# Altium footprint library HRS_FX6-20S-0.8SV(71).PcbLib: 1 footprints
Each footprint in its own frame and in the unit in brackets; x right, y up, seen from the top. Pads: shape width x height; smd on the part's side, far side on the other; paste and mask are expansions set on the pad; w line width, h text height; cw(c..) or ccw(c..) is an arc to the next point about the centre after c.
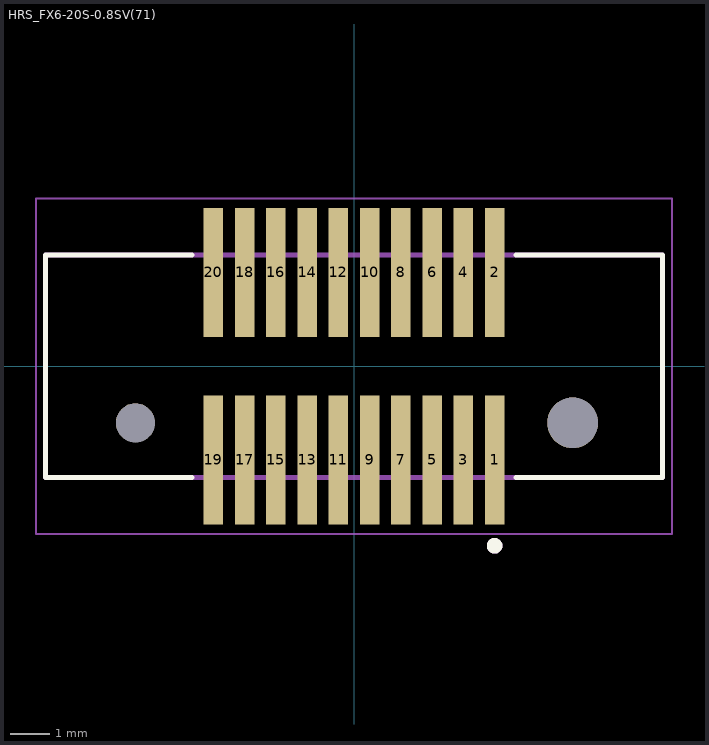
[diagram p0: the footprint, top view; thin cyan lines are the x and y axes]

## HRS_FX6-20S-0.8SV(71) [mm]
pads (22):
  rect 0.5x3.3 smd: 1(3.6,-2.4) 2(3.6,2.4) 3(2.8,-2.4) 4(2.8,2.4) 5(2,-2.4) 6(2,2.4) 7(1.2,-2.4) 8(1.2,2.4) 9(0.4,-2.4) 10(0.4,2.4) 11(-0.4,-2.4) 12(-0.4,2.4) 13(-1.2,-2.4) 14(-1.2,2.4) 15(-2,-2.4) 16(-2,2.4) 17(-2.8,-2.4) 18(-2.8,2.4) 19(-3.6,-2.4) 20(-3.6,2.4)
  round 1 hole 1 unplated: ""(-5.6,-1.45)
  round 1.3 hole 1.3 unplated: ""(5.6,-1.45)
Top Overlay:
  circle w0.2: c3.6,-4.6 r0.1
  lines w0.127: -4.147,-2.85 -7.9,-2.85 -7.9,2.85 -4.147,2.85 ; 4.147,-2.85 7.9,-2.85 7.9,2.85 4.147,2.85
Mechanical 13:
  circle w0.2: c3.6,-4.6 r0.1
  lines w0.127: -7.9,-2.85 -7.9,2.85 7.9,2.85 7.9,-2.85 -7.9,-2.85
Mechanical 15:
  lines w0.05: -8.15,-4.3 -8.15,4.3 8.15,4.3 8.15,-4.3 -8.15,-4.3